# EAGLE library part GE13R (library resistor-sil)
SIL RESISTOR
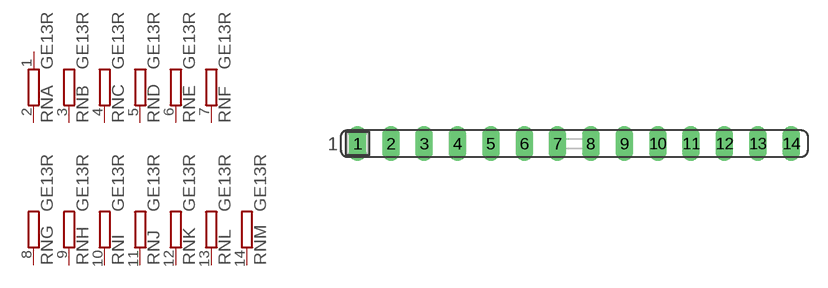
[diagram p27: symbol with the pads of SIL14; footprint SIL14]

Designator prefix RN; gates A=R-NV B=R-NV1 C=R-NV1 D=R-NV1 E=R-NV1 F=R-NV1 G=R-NV1 H=R-NV1 I=R-NV1 J=R-NV1 K=R-NV1 L=R-NV1 M=R-NV1

## GE13R  [SIL14]
1  A:1  pas
2  A:2  pas
3  B:2  pas
4  C:2  pas
5  D:2  pas
6  E:2  pas
7  F:2  pas
8  G:2  pas
9  H:2  pas
10  I:2  pas
11  J:2  pas
12  K:2  pas
13  L:2  pas
14  M:2  pas

## Footprint SIL14 (pad centres in mm)
Single In Line
drill 0.813 long: 1 -16.51,0; 2 -13.97,0; 3 -11.43,0; 4 -8.89,0; 5 -6.35,0; 6 -3.81,0; 7 -1.27,0; 8 1.27,0; 9 3.81,0; 10 6.35,0; 11 8.89,0; 12 11.43,0; 13 13.97,0; 14 16.51,0